# EAGLE library part TLC5951 (library ti_tlc)
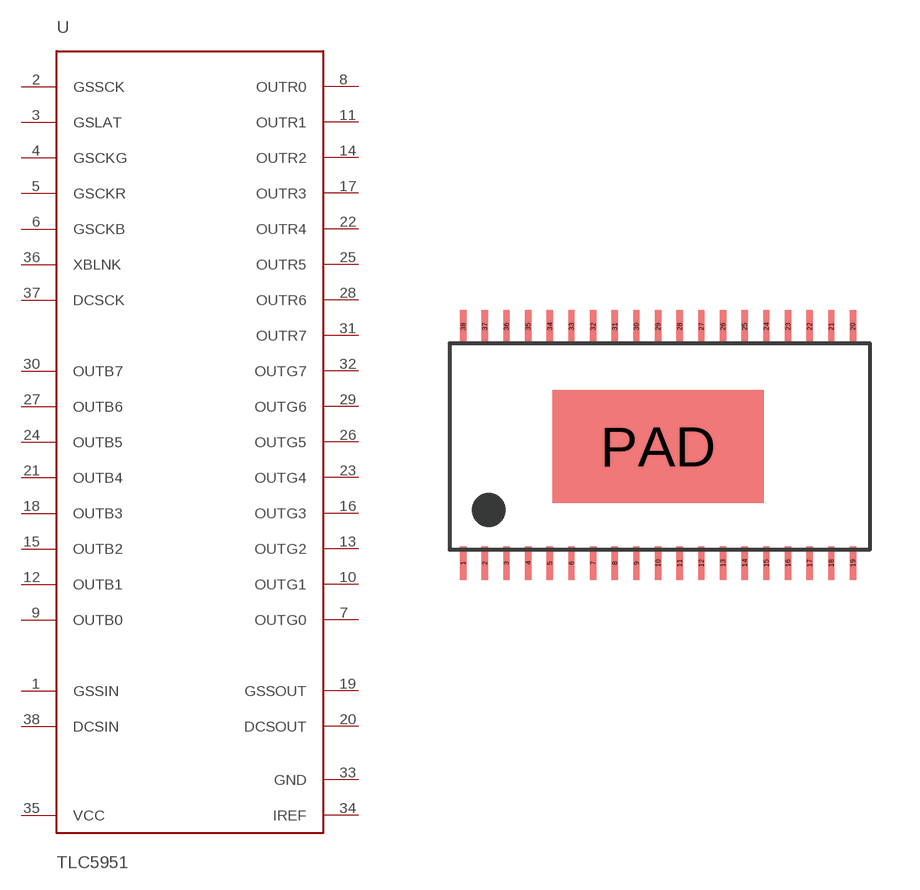
[diagram p0: symbol with the pads of HTSSOP-38-POWERPAD; footprint HTSSOP-38-POWERPAD]

Designator prefix -

## TLC5951HTSSOP-38-POWERPAD  [HTSSOP-38-POWERPAD]
1  GSSIN
2  GSSCK
3  GSLAT
4  GSCKG
5  GSCKR
6  GSCKB
7  OUTG0
8  OUTR0
9  OUTB0
10  OUTG1
11  OUTR1
12  OUTB1
13  OUTG2
14  OUTR2
15  OUTB2
16  OUTG3
17  OUTR3
18  OUTB3
19  GSSOUT
20  DCSOUT
21  OUTB4
22  OUTR4
23  OUTG4
24  OUTB5
25  OUTR5
26  OUTG5
27  OUTB6
28  OUTR6
29  OUTG6
30  OUTB7
31  OUTR7
32  OUTG7
33  GND
34  IREF
35  VCC
36  XBLNK
37  DCSCK
38  DCSIN

## Footprint HTSSOP-38-POWERPAD (pad centres in mm)
smd 0.19 x 1: 1 -5.85,-3.5; 2 -5.2,-3.5; 3 -4.55,-3.5; 4 -3.9,-3.5; 5 -3.25,-3.5; 6 -2.6,-3.5; 7 -1.95,-3.5; 8 -1.3,-3.5; 9 -0.65,-3.5; 10 0,-3.5; 11 0.65,-3.5; 12 1.3,-3.5; 13 1.95,-3.5; 14 2.6,-3.5; 15 3.25,-3.5; 16 3.9,-3.5; 17 4.55,-3.5; 18 5.2,-3.5; 19 5.85,-3.5; 20 5.85,3.6; 21 5.2,3.6; 22 4.55,3.6; 23 3.9,3.6; 24 3.25,3.6; 25 2.6,3.6; 26 1.95,3.6; 27 1.3,3.6; 28 0.65,3.6; 29 0,3.6; 30 -0.65,3.6; 31 -1.3,3.6; 32 -1.95,3.6; 33 -2.6,3.6; 34 -3.25,3.6; 35 -3.9,3.6; 36 -4.55,3.6; 37 -5.2,3.6; 38 -5.85,3.6
smd 6.35 x 3.39: PAD 0,0